# Altium footprint library Oscillator.PcbLib: 62 footprints (part 3 of 4)
Each footprint in its own frame and in the unit in brackets; x right, y up, seen from the top. Pads: shape width x height; smd on the part's side, far side on the other; paste and mask are expansions set on the pad; w line width, h text height; cw(c..) or ccw(c..) is an arc to the next point about the centre after c.
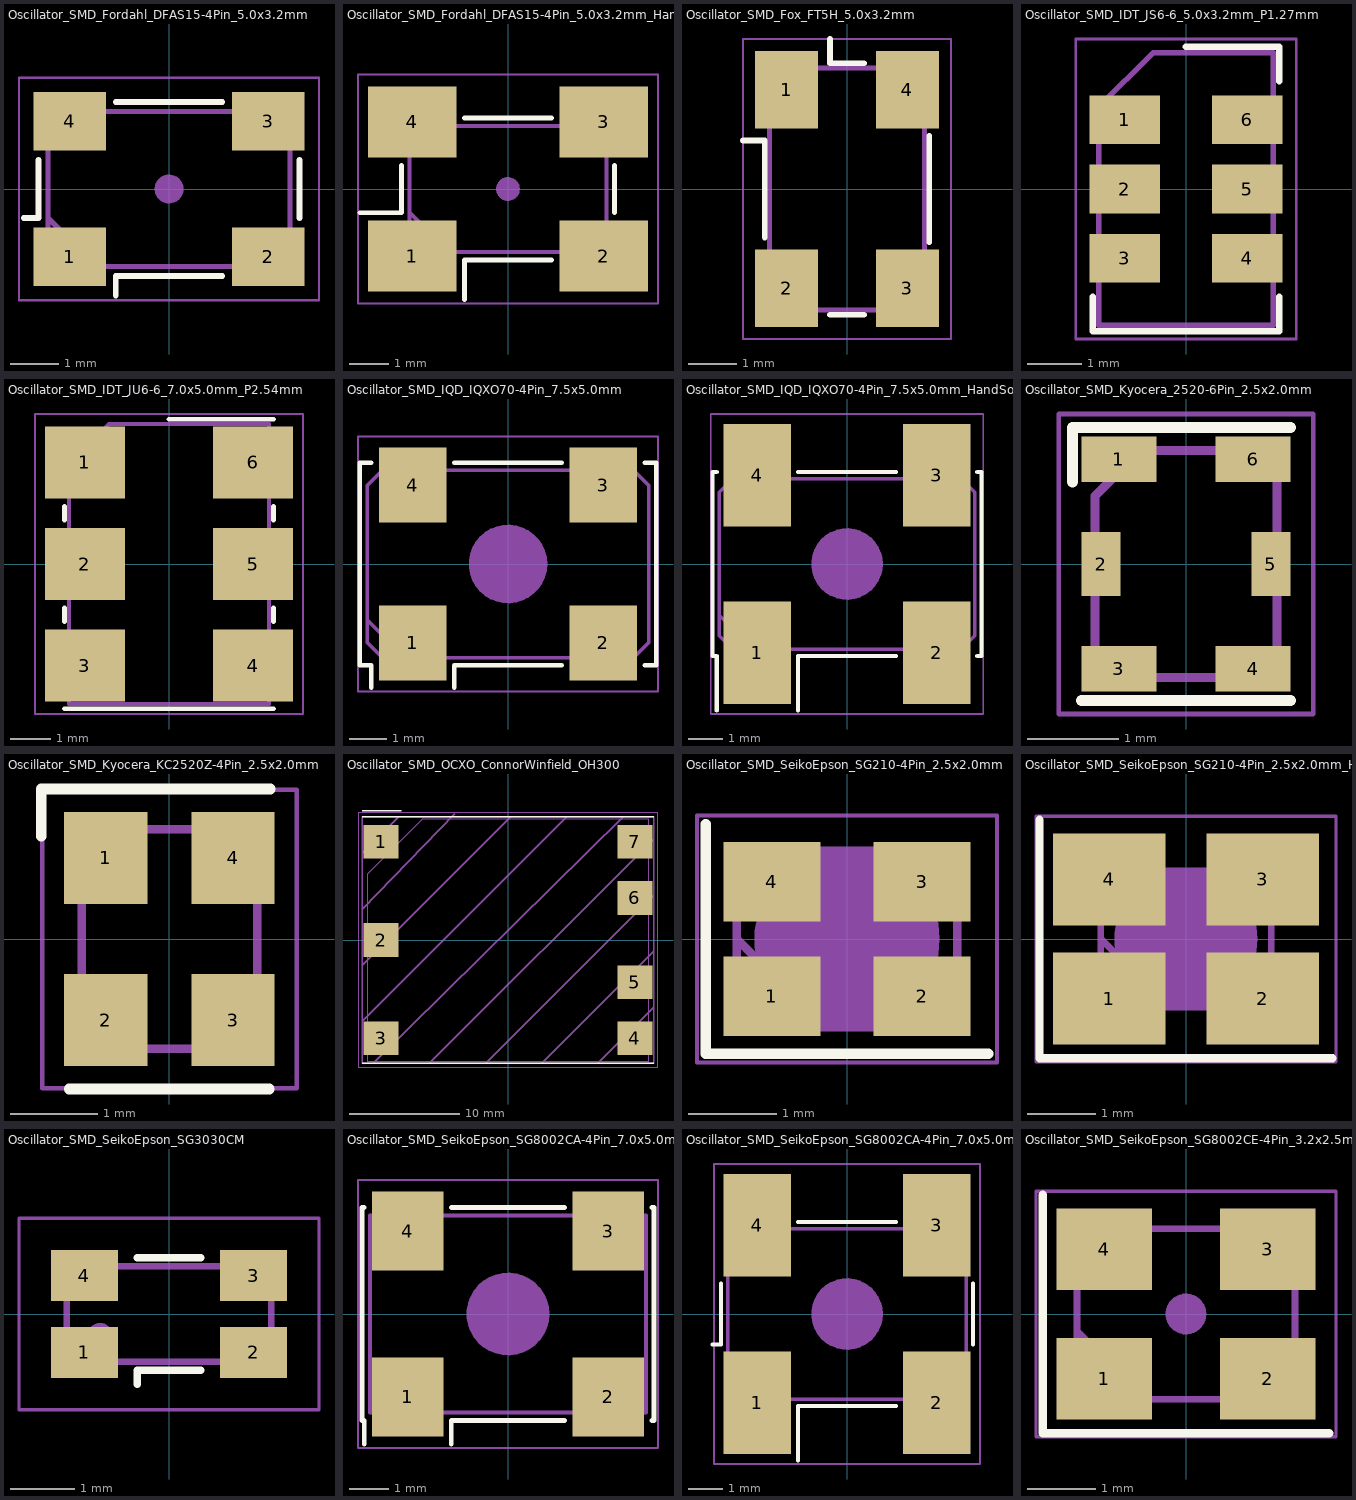
[diagram p2: the footprints below, top view; thin cyan lines are the x and y axes]

## Oscillator_SMD_Fordahl_DFAS15-4Pin_5.0x3.2mm [mm]
pads (4):
  rect 1.5x1.2 smd: 1(-2.05,-1.4) 2(2.05,-1.4) 3(2.05,1.4) 4(-2.05,1.4)
F.SilkS:
  lines w0.12: -3,-0.6 -2.7,-0.6 -2.7,0.6 ; -1.1,-2.2 -1.1,-1.8 1.1,-1.8 ; -1.1,1.8 1.1,1.8 ; 2.7,-0.6 2.7,0.6
F.CrtYd:
  lines w0.05: -3.1,-2.3 3.1,-2.3 3.1,2.3 -3.1,2.3 -3.1,-2.3
F.Fab:
  lines w0.1: -2.5,-0.6 -1.5,-1.6 ; -2.5,-1.5 -2.5,1.5 -2.4,1.6 2.4,1.6 2.5,1.5 2.5,-1.5 2.4,-1.6 -2.4,-1.6 -2.5,-1.5
  text "'.Designator'" at -4.047,-0.84 h1
F.Adhes:
  circle w0.117: c0,0 r0.058
  circle w0.083: c0,0 r0.208
  circle w0.083: c0,0 r0.133
  circle w0.1: c0,0 r0.25

## Oscillator_SMD_Fordahl_DFAS15-4Pin_5.0x3.2mm_HandSoldering [mm]
pads (4):
  rect 2.25x1.8 smd: 1(-2.425,-1.7) 2(2.425,-1.7) 3(2.425,1.7) 4(-2.425,1.7)
F.SilkS:
  lines w0.12: -3.75,-0.6 -2.7,-0.6 -2.7,0.6 ; -1.1,-2.8 -1.1,-1.8 1.1,-1.8 ; -1.1,1.8 1.1,1.8 ; 2.7,-0.6 2.7,0.6
F.CrtYd:
  lines w0.05: -3.8,-2.9 -3.8,2.9 3.8,2.9 3.8,-2.9 -3.8,-2.9
F.Fab:
  lines w0.1: -2.5,-0.6 -1.5,-1.6 ; -2.5,-1.5 -2.4,-1.6 2.4,-1.6 2.5,-1.5 2.5,1.5 2.4,1.6 -2.4,1.6 -2.5,1.5 -2.5,-1.5
  text "'.Designator'" at -4.047,-0.84 h1
F.Adhes:
  circle w0.1: c0,0 r0.25
  circle w0.117: c0,0 r0.058
  circle w0.083: c0,0 r0.133
  circle w0.083: c0,0 r0.208

## Oscillator_SMD_Fox_FT5H_5.0x3.2mm [mm]
pads (4):
  rect 1.3x1.6 smd: 1(-1.25,2.05) 2(-1.25,-2.05) 3(1.25,-2.05) 4(1.25,2.05)
F.SilkS:
  lines w0.12: -2.15,1 -1.7,1 -1.7,-1 ; -0.35,-2.6 0.35,-2.6 ; -0.35,3.1 -0.35,2.6 0.35,2.6 ; 1.7,-1.1 1.7,1.1
F.CrtYd:
  lines w0.05: -2.15,-3.1 -2.15,3.1 2.15,3.1 2.15,-3.1 -2.15,-3.1
F.Fab:
  lines w0.1: -1.6,-2.5 1.6,-2.5 1.6,2.5 -0.9,2.5 -1.6,1.7 -1.6,-2.5
  text "'.Designator'" at 0.84,-4.047 h1

## Oscillator_SMD_IDT_JS6-6_5.0x3.2mm_P1.27mm [mm]
pads (6):
  rect 1.29x0.89 smd: 1(-1.125,1.27) 2(-1.125,0) 3(-1.125,-1.27) 4(1.125,-1.27) 5(1.125,0) 6(1.125,1.27)
F.SilkS:
  lines w0.12: -1.71,-1.98 -1.71,-2.61 1.71,-2.61 1.71,-1.98 ; 0,2.61 1.71,2.61 1.71,1.98
F.CrtYd:
  lines w0.05: -2.02,-2.75 2.02,-2.75 2.02,2.75 -2.02,2.75 -2.02,-2.75
F.Fab:
  lines w0.1: -1.6,-2.5 1.6,-2.5 1.6,2.5 -0.6,2.5 -1.6,1.5 -1.6,-2.5
  text "'.Designator'" at -3.023,-0.618 h0.75

## Oscillator_SMD_IDT_JU6-6_7.0x5.0mm_P2.54mm [mm]
pads (6):
  rect 2x1.8 smd: 1(-2.1,2.54) 2(-2.1,0) 3(-2.1,-2.54) 4(2.1,-2.54) 5(2.1,0) 6(2.1,2.54)
F.SilkS:
  lines w0.12: -2.61,-3.62 2.61,-3.62 ; -2.61,-1.44 -2.61,-1.1 ; -2.61,1.1 -2.61,1.44 ; 0,3.62 2.61,3.62 ; 2.61,-1.44 2.61,-1.1 ; 2.61,1.1 2.61,1.44
F.CrtYd:
  lines w0.05: -3.35,-3.75 3.35,-3.75 3.35,3.75 -3.35,3.75 -3.35,-3.75
F.Fab:
  lines w0.1: -2.5,-3.5 2.5,-3.5 2.5,3.5 -1.5,3.5 -2.5,2.5 -2.5,-3.5
  text "'.Designator'" at -4.047,-0.84 h1

## Oscillator_SMD_IQD_IQXO70-4Pin_7.5x5.0mm [mm]
pads (4):
  rect 1.8x2 smd: 1(-2.54,-2.1) 2(2.54,-2.1) 3(2.54,2.1) 4(-2.54,2.1)
F.SilkS:
  lines w0.12: -3.64,-3.3 -3.64,-2.7 -3.95,-2.7 -3.95,2.7 -3.64,2.7 ; -1.44,-3.3 -1.44,-2.7 1.44,-2.7 ; -1.44,2.7 1.44,2.7 ; 3.64,-2.7 3.95,-2.7 3.95,2.7 3.64,2.7
F.CrtYd:
  lines w0.05: -4,-3.4 -4,3.4 4,3.4 4,-3.4 -4,-3.4
F.Fab:
  lines w0.1: -3.75,-1.5 -2.75,-2.5 ; -3.75,-2.1 -3.35,-2.5 3.35,-2.5 3.75,-2.1 3.75,2.1 3.35,2.5 -3.35,2.5 -3.75,2.1 -3.75,-2.1
  text "'.Designator'" at -4.047,-0.84 h1
F.Adhes:
  circle w0.333: c0,0 r0.833
  circle w0.467: c0,0 r0.233
  circle w0.333: c0,0 r0.533
  circle w0.1: c0,0 r1

## Oscillator_SMD_IQD_IQXO70-4Pin_7.5x5.0mm_HandSoldering [mm]
pads (4):
  rect 1.98x3 smd: 1(-2.63,-2.6) 2(2.63,-2.6) 3(2.63,2.6) 4(-2.63,2.6)
F.SilkS:
  lines w0.12: -3.82,-4.3 -3.82,-2.7 -3.95,-2.7 -3.95,2.7 -3.82,2.7 ; -1.44,-4.3 -1.44,-2.7 1.44,-2.7 ; -1.44,2.7 1.44,2.7 ; 3.82,-2.7 3.95,-2.7 3.95,2.7 3.82,2.7
F.CrtYd:
  lines w0.05: -4,-4.4 -4,4.4 4,4.4 4,-4.4 -4,-4.4
F.Fab:
  lines w0.1: -3.75,-1.5 -2.75,-2.5 ; -3.75,-2.1 -3.35,-2.5 3.35,-2.5 3.75,-2.1 3.75,2.1 3.35,2.5 -3.35,2.5 -3.75,2.1 -3.75,-2.1
  text "'.Designator'" at -4.047,-0.84 h1
F.Adhes:
  circle w0.467: c0,0 r0.233
  circle w0.1: c0,0 r1
  circle w0.333: c0,0 r0.533
  circle w0.333: c0,0 r0.833

## Oscillator_SMD_Kyocera_2520-6Pin_2.5x2.0mm [mm]
pads (6):
  rect 0.825x0.5 smd: 1(-0.737,1.15) 3(-0.737,-1.15) 4(0.737,-1.15) 6(0.737,1.15)
  rect 0.43x0.7 smd: 2(-0.935,0) 5(0.935,0)
F.SilkS:
  lines w0.12: -1.25,0.9 -1.25,1.5 1.15,1.5 ; -1.15,-1.5 1.15,-1.5
F.CrtYd:
  lines w0.05: -1.4,-1.65 1.4,-1.65 1.4,1.65 -1.4,1.65 -1.4,-1.65
F.Fab:
  lines w0.1: -1,-1.25 -1,0.75 -0.5,1.25 1,1.25 1,-1.25 -1,-1.25
  text "'.Designator'" at 0.42,-2.023 h0.5

## Oscillator_SMD_Kyocera_KC2520Z-4Pin_2.5x2.0mm [mm]
pads (4):
  rect 0.95x1.05 smd: 1(-0.725,0.925) 2(-0.725,-0.925) 3(0.725,-0.925) 4(0.725,0.925)
F.SilkS:
  lines w0.12: -1.46,1.17 -1.46,1.71 1.15,1.71 ; -1.14,-1.71 1.14,-1.71
F.CrtYd:
  lines w0.05: -1.45,-1.7 -1.45,1.7 1.45,1.7 1.45,-1.7 -1.45,-1.7
F.Fab:
  lines w0.1: -1,-1.25 1,-1.25 1,1.25 -0.5,1.25 -1,0.75 -1,-1.25
  text "'.Designator'" at -2.033,-0.49 h0.5

## Oscillator_SMD_OCXO_ConnorWinfield_OH300 [mil]
pads (7):
  rect 125x120 smd: 1(-452.5,350) 2(-452.5,0) 3(-452.5,-350) 4(452.5,-350) 5(452.5,-150) 6(452.5,150) 7(452.5,350)
F.SilkS:
  lines w4.72: -520,-440 520,-440 ; -520,440 520,440 ; -520,460 -380,460
Dwgs.User:
  lines w4.72: -520,-290 210,440 ; -520,-90 10,440 ; -520,110 -190,450 ; -520,310 -390,440 ; -480,-440 410,440 ; -280,-440 520,360 ; -80,-440 520,160 ; 120,-440 520,-40 ; 320,-440 520,-240 ; -520,-440 -520,440 520,440 520,-440 -520,-440
F.CrtYd:
  lines w1.97: -534.65,-452.76 -534.65,452.76 534.65,452.76 534.65,-452.76 -534.65,-452.76
F.Fab:
  lines w3.94: -500,-433.07 500,-433.07 500,433.07 -303.15,433.07 -500,236.22 -500,-433.07
  text "'.Designator'" at -159.32,-33.08 h39.37
Cmts.User:
  text "Note1: top layer is keepout" at -412.56,203.14 h39.37
  text "Note2: 2nd layer GND" at -297.37,125.33 h39.37

## Oscillator_SMD_SeikoEpson_SG210-4Pin_2.5x2.0mm [mm]
pads (4):
  rect 1.1x0.9 smd: 1(-0.85,-0.65) 2(0.85,-0.65) 3(0.85,0.65) 4(-0.85,0.65)
F.SilkS:
  lines w0.12: -1.6,1.3 -1.6,-1.3 1.6,-1.3
F.CrtYd:
  lines w0.05: -1.7,-1.4 1.7,-1.4 1.7,1.4 -1.7,1.4 -1.7,-1.4
F.Fab:
  lines w0.1: -1.25,0 -0.25,-1 ; -1.25,-1 -1.25,1 1.25,1 1.25,-1 -1.25,-1
  text "'.Designator'" at -2.428,-0.504 h0.6
F.Adhes:
  circle w0.333: c0,0 r0.533
  circle w0.333: c0,0 r0.833
  circle w0.467: c0,0 r0.233
  circle w0.1: c0,0 r1

## Oscillator_SMD_SeikoEpson_SG210-4Pin_2.5x2.0mm_HandSoldering [mm]
pads (4):
  rect 1.65x1.35 smd: 1(-1.125,-0.875) 2(1.125,-0.875) 3(1.125,0.875) 4(-1.125,0.875)
F.SilkS:
  lines w0.12: -2.15,1.75 -2.15,-1.75 2.15,-1.75
F.CrtYd:
  lines w0.05: -2.2,-1.8 -2.2,1.8 2.2,1.8 2.2,-1.8 -2.2,-1.8
F.Fab:
  lines w0.1: -1.25,0 -0.25,-1 ; -1.25,-1 1.25,-1 1.25,1 -1.25,1 -1.25,-1
  text "'.Designator'" at -2.428,-0.504 h0.6
F.Adhes:
  circle w0.333: c0,0 r0.833
  circle w0.1: c0,0 r1
  circle w0.333: c0,0 r0.533
  circle w0.467: c0,0 r0.233

## Oscillator_SMD_SeikoEpson_SG3030CM [mm]
pads (4):
  rect 1.05x0.8 smd: 1(-1.325,-0.6) 2(1.325,-0.6) 3(1.325,0.6) 4(-1.325,0.6)
F.SilkS:
  lines w0.12: -0.5,-1.1 -0.5,-0.88 0.5,-0.88 ; -0.5,0.88 0.5,0.88
F.CrtYd:
  lines w0.05: -2.35,-1.5 -2.35,1.5 2.35,1.5 2.35,-1.5 -2.35,-1.5
F.Fab:
  circle w0.1: c-1.08,-0.34 r0.149
  lines w0.1: -1.6,-0.75 -1.6,0.75 1.6,0.75 1.6,-0.75 -1.6,-0.75
  text "'.Designator'" at -1.229,-0.267 h0.3

## Oscillator_SMD_SeikoEpson_SG8002CA-4Pin_7.0x5.0mm [mm]
pads (4):
  rect 1.8x2 smd: 1(-2.54,-2.1) 2(2.54,-2.1) 3(2.54,2.1) 4(-2.54,2.1)
F.SilkS:
  lines w0.12: -3.64,-3.3 -3.64,-2.7 -3.7,-2.7 -3.7,2.7 -3.64,2.7 ; -1.44,-3.3 -1.44,-2.7 1.44,-2.7 ; -1.44,2.7 1.44,2.7 ; 3.64,-2.7 3.7,-2.7 3.7,2.7 3.64,2.7
F.CrtYd:
  lines w0.05: -3.8,-3.4 3.8,-3.4 3.8,3.4 -3.8,3.4 -3.8,-3.4
F.Fab:
  lines w0.1: -3.5,-1.5 -2.5,-2.5 ; -3.5,-2.5 -3.5,2.5 3.5,2.5 3.5,-2.5 -3.5,-2.5
  text "'.Designator'" at -4.047,-0.84 h1
F.Adhes:
  circle w0.467: c0,0 r0.233
  circle w0.1: c0,0 r1
  circle w0.333: c0,0 r0.533
  circle w0.333: c0,0 r0.833

## Oscillator_SMD_SeikoEpson_SG8002CA-4Pin_7.0x5.0mm_HandSoldering [mm]
pads (4):
  rect 1.98x3 smd: 1(-2.63,-2.6) 2(2.63,-2.6) 3(2.63,2.6) 4(-2.63,2.6)
F.SilkS:
  lines w0.12: -3.94,-0.9 -3.7,-0.9 -3.7,0.9 ; -1.44,-4.3 -1.44,-2.7 1.44,-2.7 ; -1.44,2.7 1.44,2.7 ; 3.7,-0.9 3.7,0.9
F.CrtYd:
  lines w0.05: -3.9,-4.4 -3.9,4.4 3.9,4.4 3.9,-4.4 -3.9,-4.4
F.Fab:
  lines w0.1: -3.5,-1.5 -2.5,-2.5 ; -3.5,-2.5 3.5,-2.5 3.5,2.5 -3.5,2.5 -3.5,-2.5
  text "'.Designator'" at -4.047,-0.84 h1
F.Adhes:
  circle w0.467: c0,0 r0.233
  circle w0.333: c0,0 r0.833
  circle w0.1: c0,0 r1
  circle w0.333: c0,0 r0.533

## Oscillator_SMD_SeikoEpson_SG8002CE-4Pin_3.2x2.5mm [mm]
pads (4):
  rect 1.4x1.2 smd: 1(-1.2,-0.95) 2(1.2,-0.95) 3(1.2,0.95) 4(-1.2,0.95)
F.SilkS:
  lines w0.12: -2.1,1.75 -2.1,-1.75 2.1,-1.75
F.CrtYd:
  lines w0.05: -2.2,-1.8 -2.2,1.8 2.2,1.8 2.2,-1.8 -2.2,-1.8
F.Fab:
  lines w0.1: -1.6,-0.25 -0.6,-1.25 ; -1.6,-1.15 -1.6,1.15 -1.5,1.25 1.5,1.25 1.6,1.15 1.6,-1.15 1.5,-1.25 -1.5,-1.25 -1.6,-1.15
  text "'.Designator'" at -2.833,-0.588 h0.7
F.Adhes:
  circle w0.083: c0,0 r0.133
  circle w0.1: c0,0 r0.25
  circle w0.117: c0,0 r0.058
  circle w0.083: c0,0 r0.208